# EAGLE library part ST3237 (library Digilent)
3.3V RS232 Transceiver with Stand-by
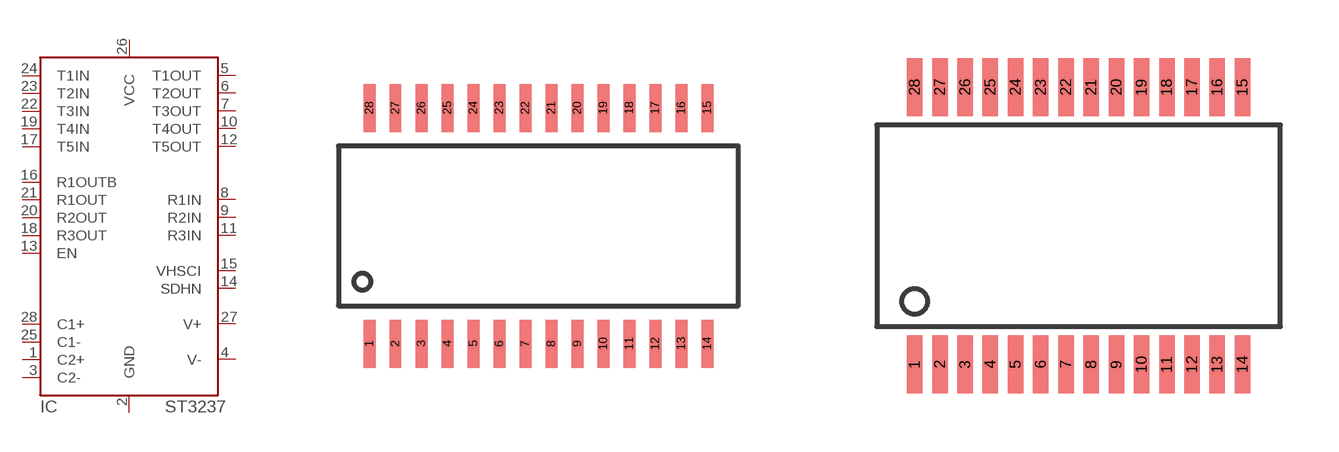
[diagram p56: symbol with the pads of TSSOP28; footprints TSSOP28, SSOP28L]

Designator prefix IC

## ST3237T  [TSSOP28]
1  C2+
2  GND  pwr
3  C2-
4  V-
5  T1OUT
6  T2OUT
7  T3OUT
8  R1IN
9  R2IN
10  T4OUT
11  R3IN
12  T5OUT
13  EN
14  SDHN
15  VHSCI
16  R1OUTB
17  T5IN
18  R3OUT
19  T4IN
20  R2OUT
21  R1OUT
22  T3IN
23  T2IN
24  T1IN
25  C1-
26  VCC  pwr
27  V+
28  C1+

## ST3237A  [SSOP28L]
Pads as for TSSOP28

## Footprint TSSOP28 (pad centres in mm)
smd 0.3 x 1.2: 1 -4.225,-2.95; 2 -3.575,-2.95; 3 -2.925,-2.95; 4 -2.275,-2.95; 5 -1.625,-2.95; 6 -0.975,-2.95; 7 -0.325,-2.95; 8 0.325,-2.95; 9 0.975,-2.95; 10 1.625,-2.95; 11 2.275,-2.95; 12 2.925,-2.95; 13 3.575,-2.95; 14 4.225,-2.95; 15 4.225,2.95; 16 3.575,2.95; 17 2.925,2.95; 18 2.275,2.95; 19 1.625,2.95; 20 0.975,2.95; 21 0.325,2.95; 22 -0.325,2.95; 23 -0.975,2.95; 24 -1.625,2.95; 25 -2.275,2.95; 26 -2.925,2.95; 27 -3.575,2.95; 28 -4.225,2.95

## Footprint SSOP28L (pad centres in mm)
28 pin SSOP, 0.65mm lead pitch
smd 0.4 x 1.5: 1 -4.225,-3.575; 2 -3.575,-3.575; 3 -2.925,-3.575; 4 -2.275,-3.575; 5 -1.625,-3.575; 6 -0.975,-3.575; 7 -0.325,-3.575; 8 0.325,-3.575; 9 0.975,-3.575; 10 1.625,-3.575; 11 2.275,-3.575; 12 2.925,-3.575; 13 3.575,-3.575; 14 4.225,-3.575; 15 4.225,3.575; 16 3.575,3.575; 17 2.925,3.575; 18 2.275,3.575; 19 1.625,3.575; 20 0.975,3.575; 21 0.325,3.575; 22 -0.325,3.575; 23 -0.975,3.575; 24 -1.625,3.575; 25 -2.275,3.575; 26 -2.925,3.575; 27 -3.575,3.575; 28 -4.225,3.575